# Altium footprint library Bitcoiner_EB_Project_V1I1.PcbLib: 38 footprints (part 2 of 3)
Each footprint in its own frame and in the unit in brackets; x right, y up, seen from the top. Pads: shape width x height; smd on the part's side, far side on the other; paste and mask are expansions set on the pad; w line width, h text height; cw(c..) or ccw(c..) is an arc to the next point about the centre after c.
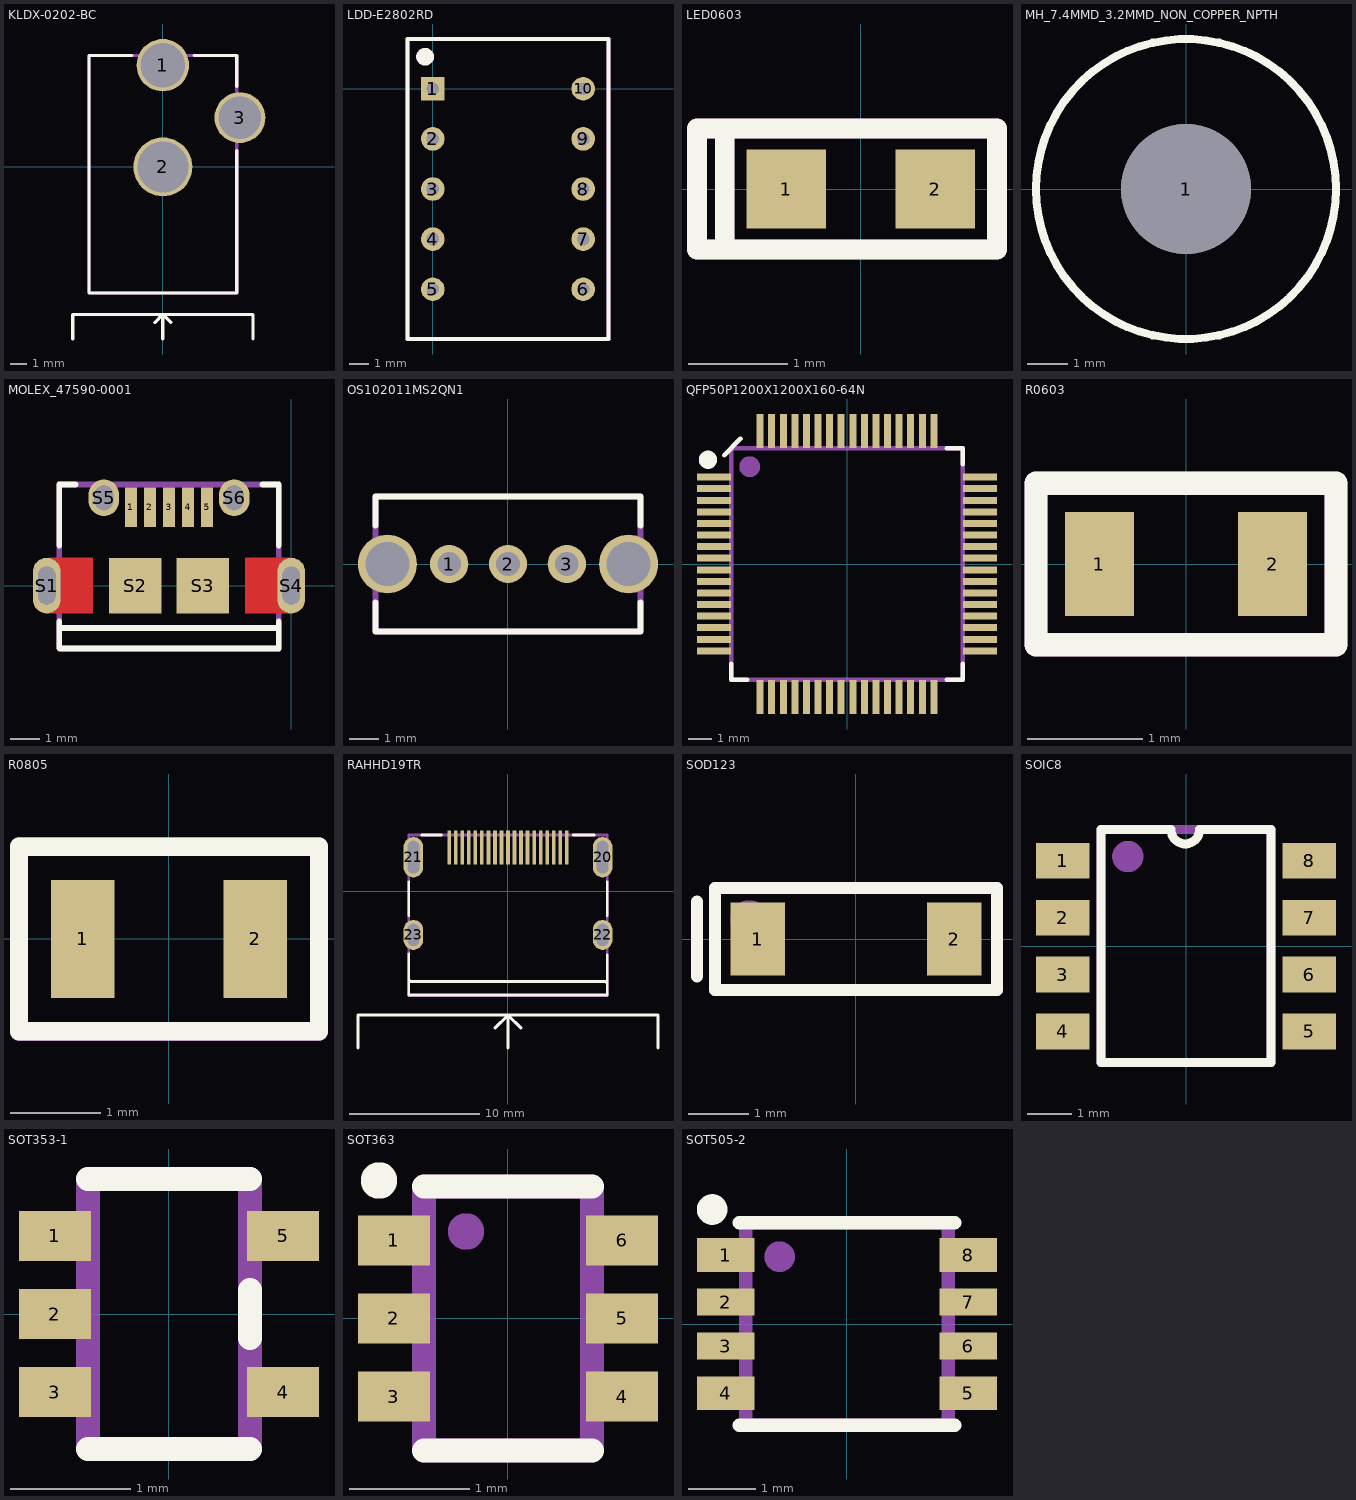
[diagram p1: the footprints below, top view; thin cyan lines are the x and y axes]

## KLDX-0202-BC [mm]
pads (3):
  round 3.2 hole 2.7: 1(0,6.2)
  round 3.6 hole 3.1: 2(0,0)
  round 3.1 hole 2.6: 3(4.7,3)
Top Overlay:
  lines w0.2: -5.5,-10.5 -5.5,-9 5.5,-9 5.5,-10.5 ; -1.9,6.8 -4.5,6.8 -4.5,6.6 -4.5,-7.7 4.5,-7.7 4.5,1 ; -0.5,-9.5 0,-9 ; 0,-10.5 0,-9 ; 0.5,-9.5 0,-9 ; 1.9,6.8 4.5,6.8 4.5,4.9
Mechanical 29:
  lines w0.2: -4.5,-7.7 4.5,-7.7 4.5,6.8 -4.5,6.8 -4.5,-7.7
  text ".Designator" at -1.575,2.225 h1.2
3D body "KLDX-0202-BC.STEP": height 11.31, standoff -3.89, extent -4.525,-7.675 5.025,6.675

## LDD-E2802RD [mm]
pads (10):
  rect 1.2x1.2 hole 0.65: 1(0,0)
  round 1.2 hole 0.65: 2(0,-2.54) 3(0,-5.08) 4(0,-7.62) 5(0,-10.16) 6(7.62,-10.16) 7(7.62,-7.62) 8(7.62,-5.08) 9(7.62,-2.54) 10(7.62,0)
Top Overlay:
  circle w0.5: c-0.39,1.62 r0.2
  lines w0.2: -1.29,-12.68 -1.29,2.52 8.91,2.52 8.91,-12.68 -1.29,-12.68
Mechanical 29:
  circle w0.5: c-0.39,1.62 r0.1
  lines w0.2: -1.29,-12.68 -1.29,2.52 8.91,2.52 8.91,-12.68 -1.29,-12.68
  text ".Designator" at 5.21,-11.38 h3
3D body "LTD-2601G.step": height 6.11, standoff -3.49, extent -1.19,-12.59 8.81,2.43

## LED0603 [mm]
pads (2):
  rect 0.8x0.8 smd: 1(-0.75,0) 2(0.75,0)
Top Overlay:
  lines w0.2: -1.397,-0.61 1.372,-0.61 1.372,0.61 -1.397,0.61 ; -1.651,-0.61 -1.651,0.61 -1.372,0.61 -1.372,-0.61 -1.651,-0.61
Mechanical 29:
  lines w0.2: -1.372,-0.61 1.372,-0.61 1.372,0.61 -1.372,0.61 ; -1.372,-0.61 -1.372,0.61 ; -1.372,-0.61 -1.651,-0.61 -1.651,0.61 -1.372,0.61
  text ".Designator" at -0.687,-0.259 h0.6
3D body "LED SMD0603.step": height 0.68, standoff 0, extent -0.868,-0.368 0.782,0.357

## MH_7.4MMD_3.2MMD_NON_COPPER_NPTH [mm]
pads (1):
  round 3.2 hole 3.2 unplated: 1(0,0)
Top Overlay:
  circle w0.2: c0,0 r3.7

## MOLEX_47590-0001 [mm]
pads (11):
  rect 0.4x1.35 smd: 1(-5.475,2.675) 2(-4.825,2.675) 3(-4.175,2.675) 4(-3.525,2.675) 5(-2.875,2.675)
  oval 0.95x1.9 hole 0.6 slot 1.3 at 90 deg mask+0: S1(-8.35,0) S4(0,0)
  rect 1.8x1.9 smd: S2(-5.325,0) S3(-3.025,0)
  oval 1.05x1.25 hole 0.65 slot 0.85 at 90 deg: S5(-6.4,3) S6(-1.95,3)
Top Layer:
  region: -6.775,-0.95 -8.35,-0.95 -8.328,-0.949 -8.303,-0.947 -8.278,-0.944 -8.253,-0.94 -8.229,-0.934 -8.205,-0.927 -8.181,-0.918 -8.158,-0.909 -8.136,-0.898 -8.114,-0.886 -8.092,-0.873 -8.072,-0.859 -8.052,-0.844 -8.033,-0.827 -8.015,-0.81 -7.998,-0.792 -7.981,-0.773 -7.966,-0.753 -7.952,-0.733 -7.939,-0.711 -7.927,-0.689 -7.916,-0.667 -7.907,-0.644 -7.898,-0.62 -7.891,-0.596 -7.885,-0.572 -7.881,-0.547 -7.878,-0.522 -7.876,-0.497 -7.875,-0.47 -7.875,0.48 -7.876,0.502 -7.878,0.527 -7.881,0.551 -7.885,0.576 -7.891,0.6 -7.898,0.624 -7.906,0.647 -7.916,0.67 -7.926,0.692 -7.938,0.714 -7.951,0.735 -7.965,0.755 -7.98,0.775 -7.996,0.794 -8.013,0.812 -8.031,0.829 -8.05,0.845 -8.07,0.86 -8.09,0.874 -8.111,0.887 -8.133,0.899 -8.155,0.909 -8.178,0.919 -8.201,0.927 -8.225,0.934 -8.249,0.94 -8.274,0.944 -8.298,0.947 -8.323,0.949 -8.35,0.95 -6.775,0.95
  region: -0.022,0.949 -0.047,0.947 -0.072,0.944 -0.097,0.94 -0.121,0.934 -0.145,0.927 -0.169,0.918 -0.192,0.909 -0.214,0.898 -0.236,0.886 -0.258,0.873 -0.278,0.859 -0.298,0.844 -0.317,0.827 -0.335,0.81 -0.352,0.792 -0.369,0.773 -0.384,0.753 -0.398,0.733 -0.411,0.711 -0.423,0.689 -0.434,0.667 -0.443,0.644 -0.452,0.62 -0.459,0.596 -0.465,0.572 -0.469,0.547 -0.472,0.522 -0.474,0.497 -0.475,0.47 -0.475,-0.48 -0.474,-0.502 -0.472,-0.527 -0.469,-0.551 -0.465,-0.576 -0.459,-0.6 -0.452,-0.624 -0.444,-0.647 -0.434,-0.67 -0.424,-0.692 -0.412,-0.714 -0.399,-0.735 -0.385,-0.755 -0.37,-0.775 -0.354,-0.794 -0.337,-0.812 -0.319,-0.829 -0.3,-0.845 -0.28,-0.86 -0.26,-0.874 -0.239,-0.887 -0.217,-0.899 -0.195,-0.909 -0.172,-0.919 -0.149,-0.927 -0.125,-0.934 -0.101,-0.94 -0.076,-0.944 -0.052,-0.947 -0.027,-0.949 0,-0.95 -1.575,-0.95 -1.575,0.95 0,0.95
Top Overlay:
  lines w0.2: -7.925,-1.225 -7.925,-1.45 ; -7.925,1.37 -7.925,3.45 -7.375,3.45 ; -0.975,3.45 -0.425,3.45 -0.425,1.37 ; -0.425,-1.225 -0.425,-1.45 ; -7.925,-1.45 -7.925,-2.125 -7.9,-2.15 -0.425,-2.15 -0.425,-1.45 ; -7.925,-1.45 -0.425,-1.45
Top Paste:
  region: 65 vertices and 1 holes, not listed, extent -8.85,-0.951 -6.775,0.951
  region: 65 vertices and 1 holes, not listed, extent -1.575,-0.951 0.5,0.951
Top Solder:
  region: 65 vertices and 1 holes, not listed, extent -8.95,-1.05 -6.675,1.05
  region: 65 vertices and 1 holes, not listed, extent -1.675,-1.05 0.6,1.05
Mechanical 29:
  lines w0.2: -7.925,-2.15 -0.425,-2.15 -0.425,3.45 -7.925,3.45 -7.925,-2.15
  text ".Designator" at -6.396,-5.213 h1.52
3D body "475900001.stp": height 2.74, standoff -0.61, extent -8.5,-2.763 0.15,3.137

## OS102011MS2QN1 [mm]
pads (5):
  round 1.3 hole 0.8: 1(-2,0) 2(0,0) 3(2,0)
  round 2 hole 1.5: ""(-4.1,0) ""(4.1,0)
Top Overlay:
  lines w0.2: -4.5,-1.3 -4.5,-2.3 4.5,-2.3 4.5,-1.3 ; -4.5,1.3 -4.5,2.3 4.5,2.3 4.5,1.3
Mechanical 29:
  lines w0.2: -4.5,-2.3 4.5,-2.3 4.5,2.3 -4.5,2.3 -4.5,-2.3
  text ".Designator" at -1.9,-0.475 h1.2
3D body "OS102011MS2QN1.step": height 8.71, standoff -2.79, extent -4.3,-2.15 4.3,2.15

## PCBComponent_1 [mm]

## QFP50P1200X1200X160-64N [mm]
pads (64):
  rect 1.475x0.3 smd: 1(-5.738,3.75) 2(-5.738,3.25) 3(-5.738,2.75) 4(-5.738,2.25) 5(-5.738,1.75) 6(-5.738,1.25) 7(-5.738,0.75) 8(-5.738,0.25) 9(-5.738,-0.25) 10(-5.738,-0.75) 11(-5.738,-1.25) 12(-5.738,-1.75) 13(-5.738,-2.25) 14(-5.738,-2.75) 15(-5.738,-3.25) 16(-5.738,-3.75) 33(5.738,-3.75) 34(5.738,-3.25) 35(5.738,-2.75) 36(5.738,-2.25) 37(5.738,-1.75) 38(5.738,-1.25) 39(5.738,-0.75) 40(5.738,-0.25) 41(5.738,0.25) 42(5.738,0.75) 43(5.738,1.25) 44(5.738,1.75) 45(5.738,2.25) 46(5.738,2.75) 47(5.738,3.25) 48(5.738,3.75)
  rect 0.3x1.475 smd: 17(-3.75,-5.738) 18(-3.25,-5.738) 19(-2.75,-5.738) 20(-2.25,-5.738) 21(-1.75,-5.738) 22(-1.25,-5.738) 23(-0.75,-5.738) 24(-0.25,-5.738) 25(0.25,-5.738) 26(0.75,-5.738) 27(1.25,-5.738) 28(1.75,-5.738) 29(2.25,-5.738) 30(2.75,-5.738) 31(3.25,-5.738) 32(3.75,-5.738) 49(3.75,5.738) 50(3.25,5.738) 51(2.75,5.738) 52(2.25,5.738) 53(1.75,5.738) 54(1.25,5.738) 55(0.75,5.738) 56(0.25,5.738) 57(-0.25,5.738) 58(-0.75,5.738) 59(-1.25,5.738) 60(-1.75,5.738) 61(-2.25,5.738) 62(-2.75,5.738) 63(-3.25,5.738) 64(-3.75,5.738)
Top Overlay:
  circle w0.5: c-6,4.5 r0.141
  lines w0.2: -5.3,4.7 -4.6,5.4 ; -5,-4.3 -5,-5 -4.3,-5 ; 4.3,-5 5,-5 5,-4.3 ; 4.3,5 5,5 5,4.3
Mechanical 29:
  circle w0.5: c-4.2,4.2 r0.2
  lines w0.2: -5,-5 5,-5 5,5 -5,5 -5,-5
  text ".Designator" at -2.846,-0.638 h1.52
3D body "lqfp64.step": height 1.63, standoff 0, extent -6.072,-6.072 6.072,6.072

## R0603 [mm]
pads (2):
  rect 0.6x0.9 smd: 1(-0.75,0) 2(0.75,0)
Top Overlay:
  lines w0.2: -1.3,-0.7 1.3,-0.7 1.3,0.7 -1.3,0.7 -1.3,-0.7
Mechanical 29:
  lines w0.2: -1.3,-0.7 1.3,-0.7 1.3,0.7 -1.3,0.7 -1.3,-0.7
  text ".Designator" at -0.95,-0.45 h0.9
3D body "RESC1608X50N.step": height 0.51, standoff 0.01, extent -0.8,-0.4 0.8,0.4

## R0805 [mm]
pads (2):
  rect 0.7x1.3 smd: 1(-0.95,0) 2(0.95,0)
Top Overlay:
  lines w0.2: -1.651,-1.016 1.651,-1.016 1.651,1.016 -1.651,1.016 -1.651,-1.016
Mechanical 29:
  lines w0.2: -1.65,-1.025 1.65,-1.025 1.65,1.025 -1.65,1.025 -1.65,-1.025
  text ".Designator" at -0.892,-0.67 h1.2
3D body "RESC2012X60N EIA 0805.step": height 0.61, standoff 0.01, extent -1,-0.6 1,0.6

## RAHHD19TR [mm]
pads (23):
  rect 0.28x2.6 smd: 1(4.5,3.36) 2(4,3.36) 3(3.5,3.36) 4(3,3.36) 5(2.5,3.36) 6(2,3.36) 7(1.5,3.36) 8(1,3.36) 9(0.5,3.36) 10(0,3.36) 11(-0.5,3.36) 12(-1,3.36) 13(-1.5,3.36) 14(-2,3.36) 15(-2.5,3.36) 16(-3,3.36) 17(-3.5,3.36) 18(-4,3.36) 19(-4.5,3.36)
  oval 1.5x3.1 hole 2.5 slot 0.9 at 0 deg: 20(7.25,2.6) 21(-7.25,2.6)
  oval 1.5x2.3 hole 1.7 slot 0.9 at 0 deg: 22(7.25,-3.36) 23(-7.25,-3.36)
Top Overlay:
  lines w0.2: -7.6,-4.8 -7.6,-7.96 ; -7.6,-1.9 -7.6,0.7 ; -6.6,4.3 -5.1,4.3 ; 5,4.3 6.6,4.3 ; 7.6,-4.9 7.6,-7.96 ; 7.6,-1.9 7.6,0.7 ; -7.6,-7.96 7.6,-7.96 ; -7.6,-7.96 7.6,-7.96
  lines w0.254: -11.5,-12 -11.5,-9.5 0,-9.5 ; -7.5,-6.902 7.5,-6.948 ; -1,-10.5 0,-9.5 ; 0,-12 0,-9.5 ; 1,-10.5 0,-9.5 ; 11.5,-12 11.5,-9.5 0,-9.5
Mechanical 29:
  lines w0.2: -7.6,-8 7.6,-8 7.6,4.3 -7.6,4.3 -7.6,-8
  text ".Designator" at -4.146,-2.138 h1.52
3D body "1827059-1.stp": height 6.09, standoff -2.18, extent -7.5,-7.9 7.5,4.2

## SOD123 [mm]
pads (2):
  rect 0.91x1.22 smd: 1(-1.635,0) 2(1.635,0)
Top Overlay:
  lines w0.2: -2.65,-0.625 -2.65,0.625 ; -2.35,-0.85 -2.35,0.85 2.35,0.85 2.35,-0.85 -2.35,-0.85
Mechanical 29:
  circle w0.5: c-1.775,0.325 r0.07
  lines w0.2: -2.35,-0.85 -2.35,0.85 2.35,0.85 2.35,-0.85 -2.35,-0.85
  text ".Designator" at -0.975,-0.275 h0.6
3D body "SOD123.step": height 1.21, standoff 0.01, extent -1.8,-0.8 1.8,0.8

## SOIC8 [mm]
pads (8):
  rect 1.2x0.8 smd: 1(-2.75,1.905) 2(-2.75,0.635) 3(-2.75,-0.635) 4(-2.75,-1.905) 5(2.75,-1.905) 6(2.75,-0.635) 7(2.75,0.635) 8(2.75,1.905)
Top Overlay:
  lines w0.2: -1.9,-2.6 1.9,-2.6 1.9,2.6 0.301,2.6 cw(c-0.016,2.6) -0.334,2.6 -1.9,2.6 -1.9,-2.6
Mechanical 29:
  circle w0.5: c-1.3,2 r0.1
  lines w0.2: -1.9,-2.6 -1.9,2.6 1.9,2.6 1.9,-2.6 -1.9,-2.6
  text ".Designator" at 0.5,-1.2 h1.2
3D body "SOIC8.STEP": height 1.75, standoff 0, extent -3,-2.45 3,2.45

## SOT353-1 [mm]
pads (5):
  rect 0.6x0.42 smd: 1(-0.95,0.65) 2(-0.95,0) 3(-0.95,-0.65) 4(0.95,-0.65) 5(0.95,0.65)
Top Overlay:
  lines w0.2: -0.675,-1.125 0.675,-1.125 ; -0.675,1.125 0.675,1.125 ; 0.675,-0.2 0.675,0.2
Mechanical 29:
  lines w0.2: 0.675,1.125 -0.675,1.125 -0.675,-1.125 0.675,-1.125 0.675,1.125 ; 0.675,1.125 0.675,1.125
  text ".Designator" at -0.5,-0.2 h0.6
3D body "SOT353-1.step": height 0.91, standoff -0.04, extent -1.05,-1.05 1.05,1.1

## SOT363 [mm]
pads (6):
  rect 0.6x0.42 smd: 1(-0.95,0.65) 2(-0.95,0) 3(-0.95,-0.65) 4(0.95,-0.65) 5(0.95,0) 6(0.95,0.65)
Top Overlay:
  circle w0.254: c-1.075,1.15 r0.025
  lines w0.2: -0.7,-1.1 0.7,-1.1 ; -0.7,1.1 0.7,1.1
Mechanical 29:
  circle w0.254: c-0.35,0.725 r0.025
  lines w0.2: -0.7,-1.1 -0.7,1.1 0.7,1.1 0.7,-1.1 -0.7,-1.1
  text ".Designator" at 0.25,-0.675 h0.6
3D body "SOT363.step": height 0.91, standoff -0.04, extent -1.05,-1.1 1.05,1.05

## SOT505-2 [mm]
pads (8):
  rect 0.85x0.5 smd: 1(-1.8,1.025) 4(-1.8,-1.025) 5(1.8,-1.025) 8(1.8,1.025)
  rect 0.85x0.4 smd: 2(-1.8,0.325) 3(-1.8,-0.325) 6(1.8,-0.325) 7(1.8,0.325)
Top Overlay:
  circle w0.254: c-2,1.7 r0.1
  lines w0.2: -1.6,-1.5 1.6,-1.5 ; -1.6,1.5 1.6,1.5
Mechanical 29:
  circle w0.254: c-1,1 r0.1
  lines w0.2: -1.5,-1.5 1.5,-1.5 1.5,1.5 -1.5,1.5 -1.5,-1.5
  text ".Designator" at -0.475,-0.275 h0.6
3D body "SOT505-2.step": height 0.86, standoff -0.06, extent -2.012,-1.5 2.012,1.5